# Altium footprint library libatfc.PcbLib: 59 footprints (part 3 of 4)
Each footprint in its own frame and in the unit in brackets; x right, y up, seen from the top. Pads: shape width x height; smd on the part's side, far side on the other; paste and mask are expansions set on the pad; w line width, h text height; cw(c..) or ccw(c..) is an arc to the next point about the centre after c.
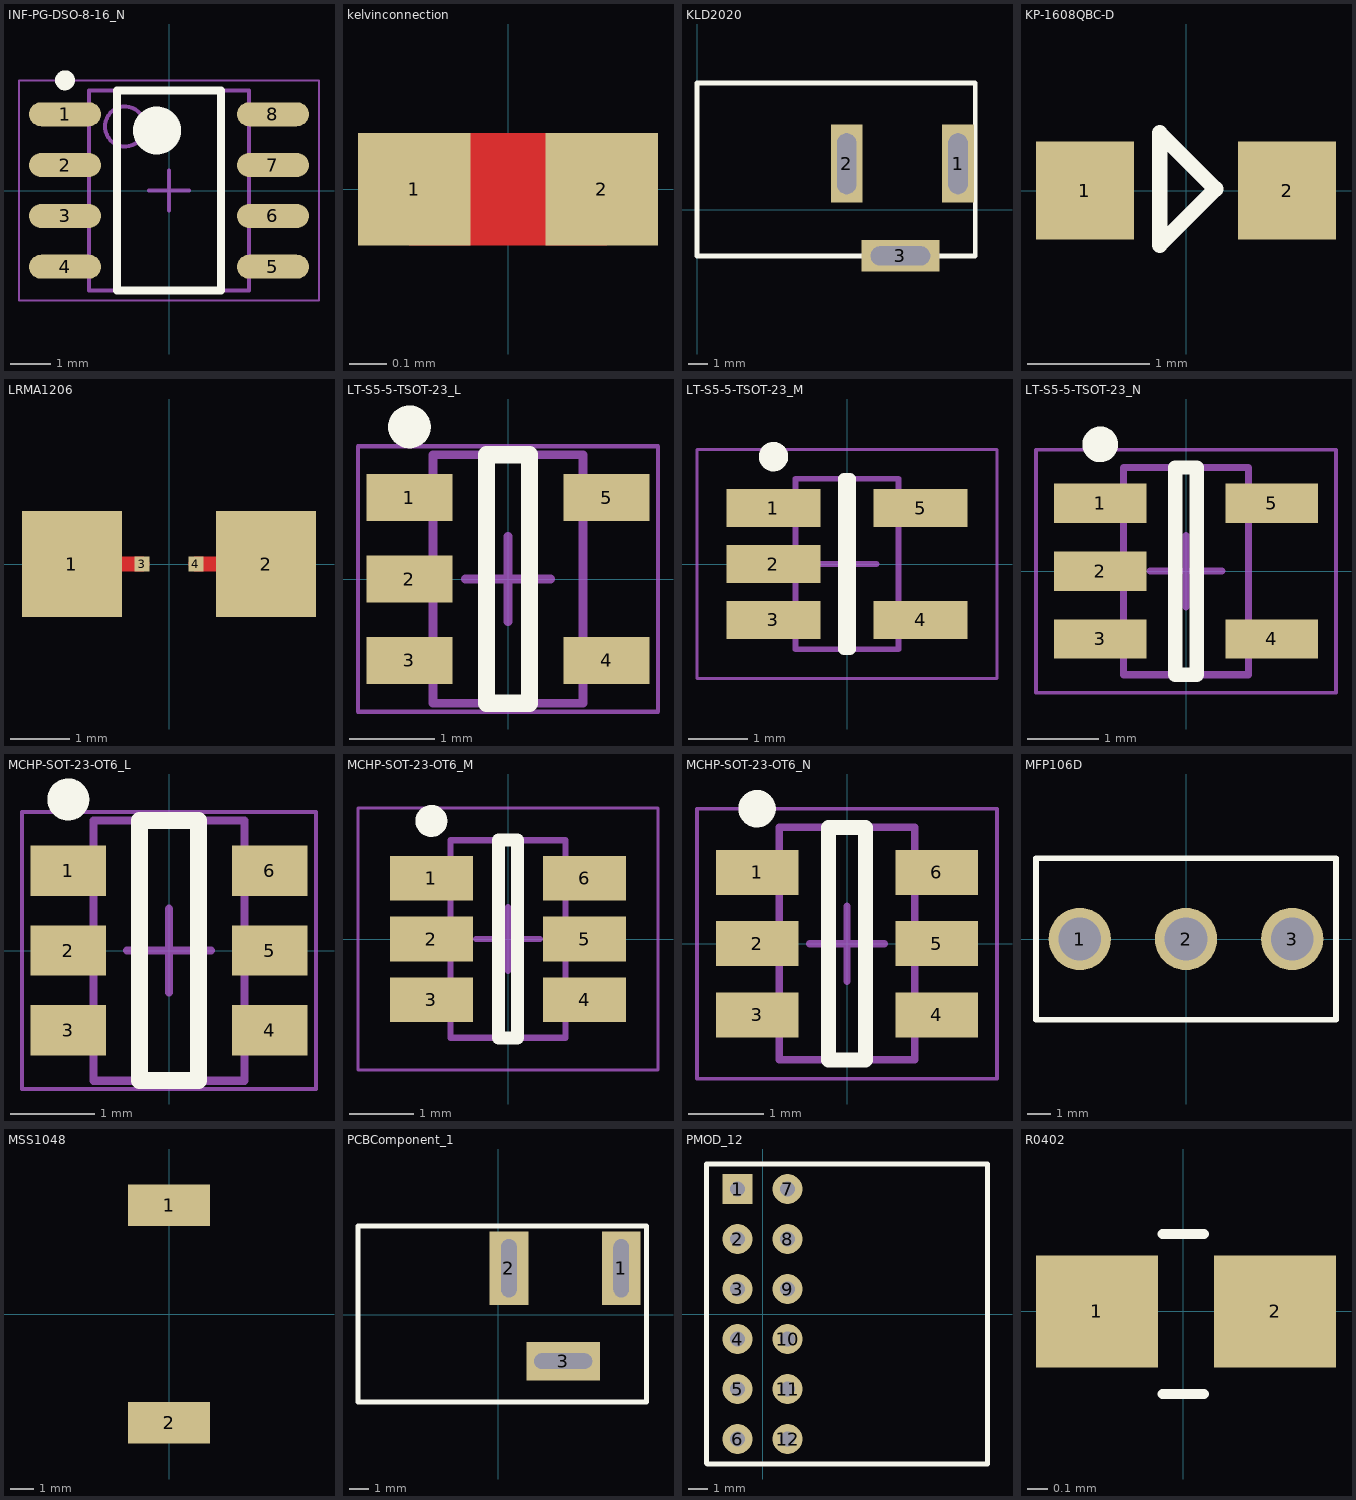
[diagram p2: the footprints below, top view; thin cyan lines are the x and y axes]

## INF-PG-DSO-8-16_N [mm] "SOP, 8-Leads, Body 4.9x3.9mm, Pitch 1.27mm, IPC Medium Density"
height 1.75
pads (8):
  oval 1.8x0.6 smd: 1(-2.6,1.905) 2(-2.6,0.635) 3(-2.6,-0.635) 4(-2.6,-1.905) 5(2.6,-1.905) 6(2.6,-0.635) 7(2.6,0.635) 8(2.6,1.905)
Top Overlay:
  circle w0.25: c-2.6,2.755 r0.125
  circle w0.6: c-0.3,1.5 r0.3
  lines w0.2: -1.3,-2.5 -1.3,2.5 1.3,2.5 1.3,-2.5 -1.3,-2.5
Mechanical 13:
  circle w0.1: c-1.1,1.6 r0.5
  lines w0.1: -2,-2.5 -2,2.5 2,2.5 2,-2.5 -2,-2.5
Mechanical 15:
  lines w0.05: -3.75,-2.75 -3.75,2.75 3.75,2.75 3.75,-2.75 -3.75,-2.75
  lines w0.1: -0.5,0 0.5,0 ; 0,-0.5 0,0.5
3D body: height 1.75, standoff 0.11, extent -2,-2.5 2,2.5

## kelvinconnection [mil]
pads (2):
  rect 12x12 smd: 1(-10,0) 2(10,0)
Top Layer:
  lines w12: -10,0 10,0

## KLD2020 [mm]
pads (3):
  rect 1.651x4.064 hole 1 slot 3.175 at 90 deg: 1(13.6,2.4) 2(7.8,2.4)
  rect 4.064x1.651 hole 1 slot 3.1 at 0 deg: 3(10.6,-2.4)
Top Overlay:
  lines w0.254: 0,-2.4 14.5,-2.4 14.5,6.6 0,6.6 0,-2.4
3D body "STEP-694108301002-rev1.stp": height 10.94, standoff -3.56, extent 0.082,-2.485 14.582,7.015

## KP-1608QBC-D [mm]
pads (2):
  rect 0.8x0.8 smd: 1(-0.825,0) 2(0.825,0)
Top Overlay:
  lines w0.127: -0.216,-0.445 -0.216,0.47 0.241,0.013 -0.216,-0.445

## LRMA1206 [mm]
pads (4):
  rect 1.7x1.8 smd: 1(-1.65,0) 2(1.65,0)
  rect 0.254x0.254 smd: 3(-0.457,0) 4(0.457,0)
Top Layer:
  lines w0.254: -1.65,0 -0.457,0 ; 0.457,0 1.625,0

## LT-S5-5-TSOT-23_L [mm] "SOT23, 5-Leads, Body 2.90x1.63mm, Pitch 0.95mm, IPC High Density"
height 1
pads (5):
  rect 1x0.55 smd: 1(-1.15,0.95) 2(-1.15,0) 3(-1.15,-0.95) 4(1.15,-0.95) 5(1.15,0.95)
Top Overlay:
  circle w0.25: c-1.15,1.775 r0.125
  lines w0.2: -0.25,-1.45 0.25,-1.45 0.25,1.45 -0.25,1.45 -0.25,-1.45
Mechanical 13:
  lines w0.1: -0.875,-1.45 -0.875,1.45 0.875,1.45 0.875,-1.45 -0.875,-1.45
Mechanical 15:
  lines w0.05: -1.75,-1.55 -1.75,1.55 1.75,1.55 1.75,-1.55 -1.75,-1.55
  lines w0.1: -0.5,0 0.5,0 ; 0,-0.5 0,0.5
3D body: height 1, standoff 0.01, extent -0.875,-1.45 0.875,1.45

## LT-S5-5-TSOT-23_M [mm] "SOT23, 5-Leads, Body 2.90x1.63mm, Pitch 0.95mm, IPC Low Density"
height 1
pads (5):
  rect 1.6x0.65 smd: 1(-1.25,0.95) 2(-1.25,0) 3(-1.25,-0.95) 4(1.25,-0.95) 5(1.25,0.95)
Top Overlay:
  circle w0.25: c-1.25,1.825 r0.125
  lines w0.2: -0.05,-1.45 -0.05,1.45 0.05,1.45 0.05,-1.45 -0.05,-1.45
Mechanical 13:
  lines w0.1: -0.875,-1.45 0.875,-1.45 0.875,1.45 -0.875,1.45 -0.875,-1.45
Mechanical 15:
  lines w0.05: -2.55,-1.95 2.55,-1.95 2.55,1.95 -2.55,1.95 -2.55,-1.95
  lines w0.1: -0.5,0 0.5,0 ; 0,-0.5 0,0.5
3D body: height 1, standoff 0.01, extent -0.875,-1.45 0.875,1.45

## LT-S5-5-TSOT-23_N [mm] "SOT23, 5-Leads, Body 2.90x1.63mm, Pitch 0.95mm, IPC Medium Density"
height 1
pads (5):
  rect 1.3x0.55 smd: 1(-1.2,0.95) 2(-1.2,0) 3(-1.2,-0.95) 4(1.2,-0.95) 5(1.2,0.95)
Top Overlay:
  circle w0.25: c-1.2,1.775 r0.125
  lines w0.2: -0.15,-1.45 0.15,-1.45 0.15,1.45 -0.15,1.45 -0.15,-1.45
Mechanical 13:
  lines w0.1: -0.875,-1.45 -0.875,1.45 0.875,1.45 0.875,-1.45 -0.875,-1.45
Mechanical 15:
  lines w0.05: -2.1,-1.7 -2.1,1.7 2.1,1.7 2.1,-1.7 -2.1,-1.7
  lines w0.1: -0.5,0 0.5,0 ; 0,-0.5 0,0.5
3D body: height 1, standoff 0.01, extent -0.875,-1.45 0.875,1.45

## MCHP-SOT-23-OT6_L [mm] "SOT23, 6-Leads, Body 2.9x1.55mm, Pitch 0.95mm, IPC High Density"
height 1.45
pads (6):
  rect 0.9x0.6 smd: 1(-1.2,0.95) 2(-1.2,0) 3(-1.2,-0.95) 4(1.2,-0.95) 5(1.2,0) 6(1.2,0.95)
Top Overlay:
  circle w0.25: c-1.2,1.8 r0.125
  lines w0.2: -0.35,-1.55 -0.35,1.55 0.35,1.55 0.35,-1.55 -0.35,-1.55
Mechanical 13:
  lines w0.1: -0.9,-1.55 0.9,-1.55 0.9,1.55 -0.9,1.55 -0.9,-1.55
Mechanical 15:
  lines w0.05: -1.75,-1.65 1.75,-1.65 1.75,1.65 -1.75,1.65 -1.75,-1.65
  lines w0.1: -0.5,0 0.5,0 ; 0,-0.5 0,0.5
3D body: height 1.45, standoff 0, extent -0.9,-1.55 0.9,1.55

## MCHP-SOT-23-OT6_M [mm] "SOT23, 6-Leads, Body 2.9x1.55mm, Pitch 0.95mm, IPC Low Density"
height 1.45
pads (6):
  rect 1.3x0.7 smd: 1(-1.2,0.95) 2(-1.2,0) 3(-1.2,-0.95) 4(1.2,-0.95) 5(1.2,0) 6(1.2,0.95)
Top Overlay:
  circle w0.25: c-1.2,1.85 r0.125
  lines w0.2: -0.15,-1.55 0.15,-1.55 0.15,1.55 -0.15,1.55 -0.15,-1.55
Mechanical 13:
  lines w0.1: -0.9,-1.55 -0.9,1.55 0.9,1.55 0.9,-1.55 -0.9,-1.55
Mechanical 15:
  lines w0.05: -2.35,-2.05 -2.35,2.05 2.35,2.05 2.35,-2.05 -2.35,-2.05
  lines w0.1: -0.5,0 0.5,0 ; 0,-0.5 0,0.5
3D body: height 1.45, standoff 0, extent -0.9,-1.55 0.9,1.55

## MCHP-SOT-23-OT6_N [mm] "SOT23, 6-Leads, Body 2.9x1.55mm, Pitch 0.95mm, IPC Medium Density"
height 1.45
pads (6):
  rect 1.1x0.6 smd: 1(-1.2,0.95) 2(-1.2,0) 3(-1.2,-0.95) 4(1.2,-0.95) 5(1.2,0) 6(1.2,0.95)
Top Overlay:
  circle w0.25: c-1.2,1.8 r0.125
  lines w0.2: -0.25,-1.55 -0.25,1.55 0.25,1.55 0.25,-1.55 -0.25,-1.55
Mechanical 13:
  lines w0.1: -0.9,-1.55 0.9,-1.55 0.9,1.55 -0.9,1.55 -0.9,-1.55
Mechanical 15:
  lines w0.05: -2,-1.8 2,-1.8 2,1.8 -2,1.8 -2,-1.8
  lines w0.1: -0.5,0 0.5,0 ; 0,-0.5 0,0.5
3D body: height 1.45, standoff 0, extent -0.9,-1.55 0.9,1.55

## MFP106D [mm]
pads (3):
  round 2.7 hole 1.85: 1(-4.6,0) 2(0,0) 3(4.6,0)
Top Overlay:
  lines w0.254: -6.5,-3.5 -6.5,3.5 6.5,3.5 6.5,-3.5 -6.5,-3.5

## MSS1048 [mm]
pads (2):
  rect 3.56x1.78 smd: 1(0,4.7) 2(0,-4.7)
3D body "Coilcraft-MSS1048.step": height 5, standoff -0.1, extent -5.227,-5.15 4.973,5.15

## PCBComponent_1 [mm]
pads (3):
  rect 2x3.8 hole 0.8 slot 3 at 90 deg: 1(6.35,2.4) 2(0.55,2.4)
  rect 3.8x2 hole 0.8 slot 3 at 0 deg: 3(3.35,-2.4)
Top Overlay:
  lines w0.254: -7.25,-4.5 -7.25,4.572 7.645,4.572 7.645,-4.5 -7.25,-4.5

## PMOD_12 [mil]
pads (12):
  rect 60x60 hole 30: 1(-50,250)
  round 60 hole 30: 2(-50,150) 3(-50,50) 4(-50,-50) 5(-50,-150) 6(-50,-250) 7(50,250) 8(50,150) 9(50,50) 10(50,-50) 11(50,-150) 12(50,-250)
Top Overlay:
  lines w10: -112,-298 -112,-269 -112,300 450,300 450,-300 -110,-300 -112,-298
3D body "female_header_a-bl254-da-g12d.stp": height 198.43, standoff -124.41, extent -48.42,-305.93 447.64,303.91

## R0402 [mm]
pads (2):
  rect 0.6x0.55 smd: 1(-0.425,0) 2(0.452,0)
Top Overlay:
  lines w0.051: -0.102,-0.406 0.102,-0.406 ; -0.102,0.381 0.102,0.381
3D body: height 0.35, standoff 0, extent -0.54,-0.254 -0.381,0.254
3D body: height 0.35, standoff 0, extent -0.381,-0.254 0.381,0.254
3D body: height 0.35, standoff 0, extent 0.381,-0.254 0.54,0.254